# Altium footprint library Connectors.PcbLib: 36 footprints (part 1 of 3)
Each footprint in its own frame and in the unit in brackets; x right, y up, seen from the top. Pads: shape width x height; smd on the part's side, far side on the other; paste and mask are expansions set on the pad; w line width, h text height; cw(c..) or ccw(c..) is an arc to the next point about the centre after c.
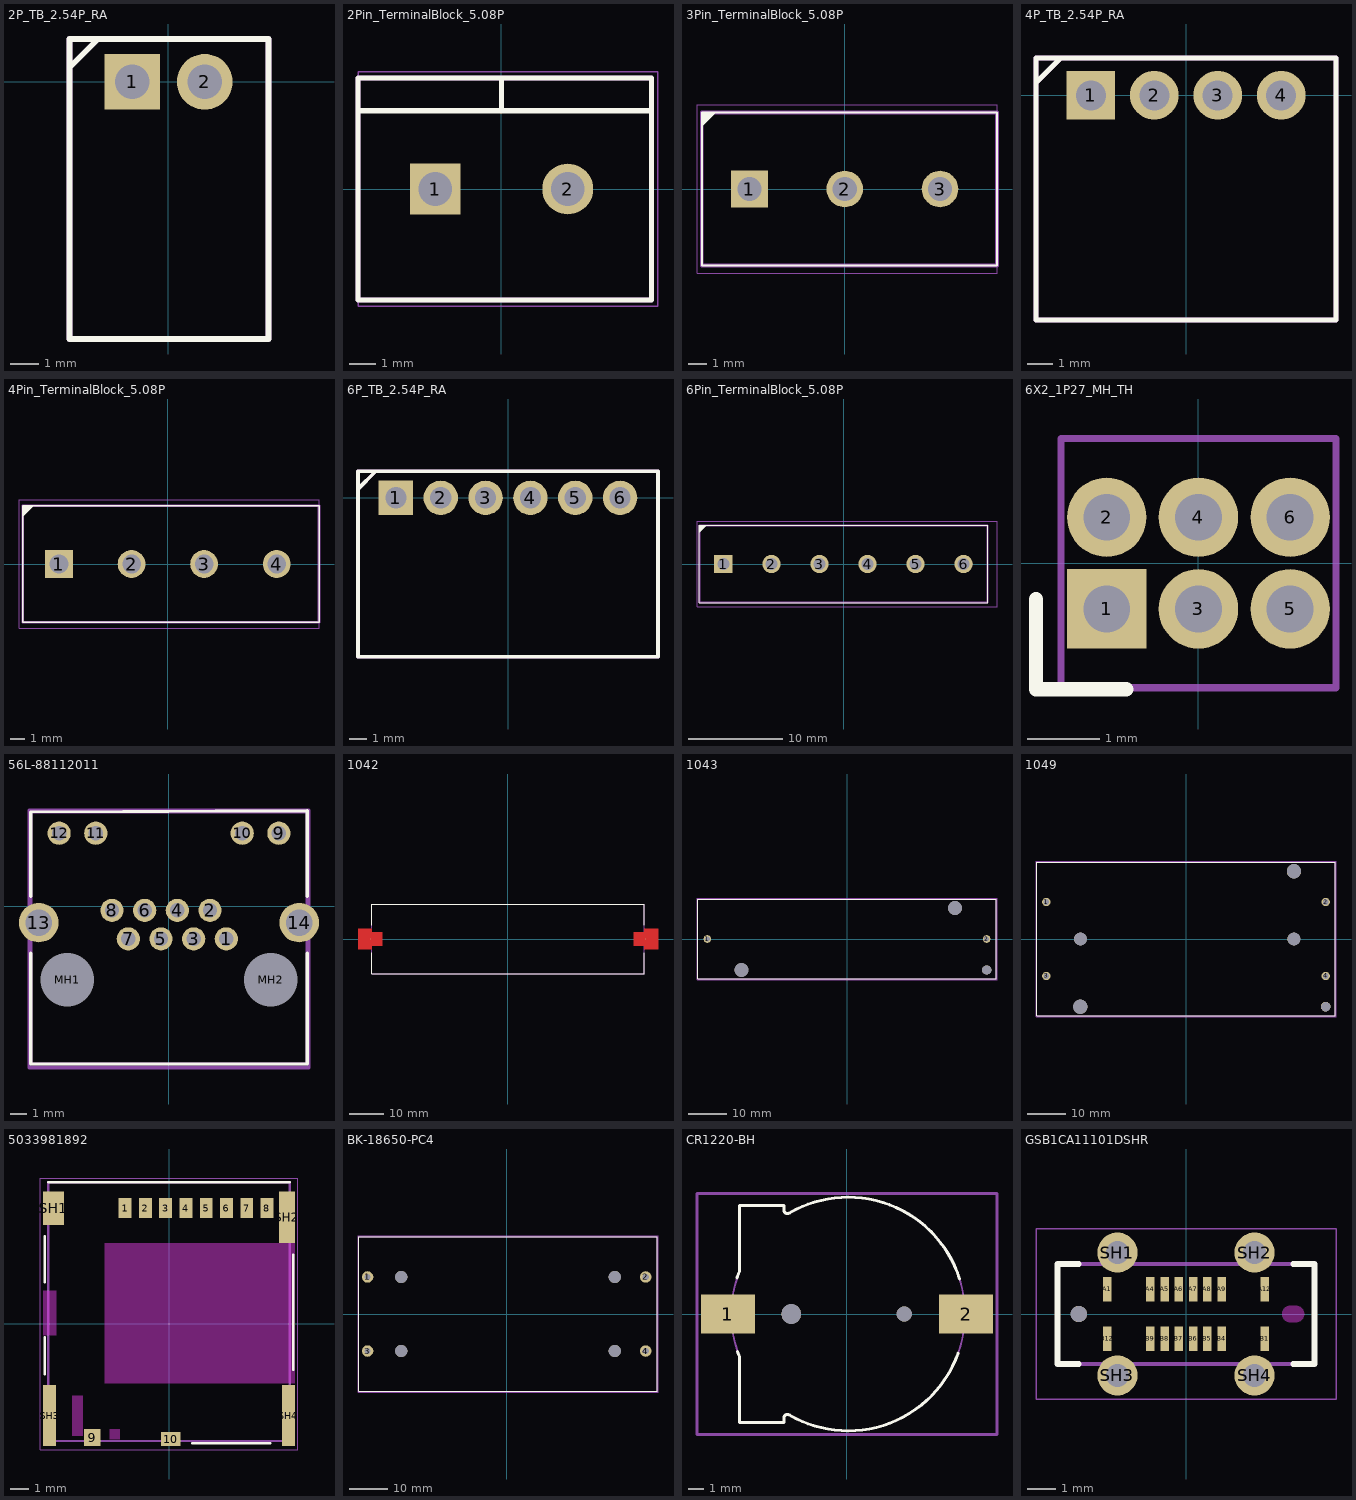
[diagram p0: the footprints below, top view; thin cyan lines are the x and y axes]

## 2P_TB_2.54P_RA [mm]
pads (2):
  rect 1.95x1.95 hole 1.2: 1(-1.27,0)
  round 1.95 hole 1.2: 2(1.27,0)
Top Overlay:
  lines w0.2: -3.46,0.5 -2.46,1.5 ; -3.46,-9 -3.46,1.5 3.5,1.5 3.5,-9 -3.46,-9
Mechanical 13:
  lines w0.2: -3.46,0.5 -2.46,1.5 ; -3.46,-9 -3.46,1.5 3.5,1.5 3.5,-9 -3.46,-9
Mechanical 15:
  lines w0.2: -3.46,-9 3.5,-9 3.5,1.5 -3.46,1.5 -3.46,-9
3D body "c-2842530-2-1-3d.stp": height 8.17, standoff -3.73, extent -3.418,-8.914 3.482,1.186

## 2Pin_TerminalBlock_5.08P [mm]
pads (2):
  rect 1.95x1.95 hole 1.3: 1(-2.54,0)
  round 1.95 hole 1.3: 2(2.54,0)
Top Overlay:
  lines w0.2: -5.5,3 5.75,3 ; 0,3 0,4.25 ; -5.5,-4.25 5.75,-4.25 5.75,4.25 -5.5,4.25 -5.5,-4.25
Mechanical 13:
  lines w0.2: -5.5,-4.25 5.75,-4.25 5.75,4.25 -5.5,4.25 -5.5,-4.25
Mechanical 15:
  lines w0.05: -5.5,-4.5 6,-4.5 6,4.5 -5.5,4.5 -5.5,-4.5
3D body "282837-2.STEP": height 10, standoff -3.5, extent -5.08,-4.1 5.68,4.1

## 3Pin_TerminalBlock_5.08P [mm]
pads (3):
  rect 1.95x1.95 hole 1.3: 1(-5.08,0)
  round 1.95 hole 1.3: 2(0,0) 3(5.08,0)
Top Overlay:
  lines w0.1: -7.621,3.377 -6.934,4.064 -7.214,4.064 -7.62,3.658 -7.62,3.505 ; -7.587,3.953 -7.595,3.945 ; -7.094,3.937 -7.094,4.048 -7.122,4.021 -7.122,3.965 -7.571,3.516 -7.571,3.583 -7.161,3.993 -7.368,3.993 -7.603,3.758 -7.603,3.834 -7.404,4.033 -7.507,4.033 -7.595,3.945 ; -7.595,3.945 -7.595,3.945 ; -7.62,-4.075 8.12,-4.075 8.12,4.075 -7.62,4.075 -7.62,-4.075
Mechanical 13:
  lines w0.2: -7.62,-4.075 8.12,-4.075 8.12,4.075 -7.62,4.075 -7.62,-4.075
Mechanical 15:
  lines w0.05: -7.88,-4.5 -7.88,4.5 8.12,4.5 8.12,-4.5 -7.88,-4.5
3D body "3er Terminal Block.step": height 14.5, standoff -3.75, extent -7.62,-5 8.02,5

## 4P_TB_2.54P_RA [mm]
pads (4):
  rect 1.95x1.95 hole 1.2: 1(-3.81,0)
  round 1.95 hole 1.2: 2(-1.27,0) 3(1.27,0) 4(3.81,0)
Top Overlay:
  lines w0.2: -6,0.5 -5,1.5 ; -6,-9 -6,1.5 6,1.5 6,-9 -6,-9
Mechanical 13:
  lines w0.2: -6,0.5 -5,1.5 ; -6,-9 -6,1.5 6,1.5 6,-9 -6,-9
Mechanical 15:
  lines w0.2: -6,-9 6,-9 6,1.5 -6,1.5 -6,-9
3D body "c-2842530-4-1-3d.stp": height 8.17, standoff -3.73, extent -5.918,-8.914 5.982,1.186

## 4Pin_TerminalBlock_5.08P [mm]
pads (4):
  rect 1.95x1.95 hole 1.3: 1(-7.62,0)
  round 1.95 hole 1.3: 2(-2.54,0) 3(2.54,0) 4(7.62,0)
Top Overlay:
  lines w0.1: -10.161,3.377 -9.474,4.064 -9.754,4.064 -10.16,3.658 -10.16,3.505 ; -10.127,3.953 -10.135,3.945 ; -9.634,3.937 -9.634,4.048 -9.662,4.021 -9.662,3.965 -10.111,3.516 -10.111,3.583 -9.701,3.993 -9.908,3.993 -10.143,3.758 -10.143,3.834 -9.944,4.033 -10.047,4.033 -10.135,3.945 ; -10.135,3.945 -10.135,3.945 ; -10.16,-4.075 10.58,-4.075 10.58,4.075 -10.16,4.075 -10.16,-4.075
Mechanical 13:
  lines w0.2: -10.16,-4.075 10.58,-4.075 10.58,4.075 -10.16,4.075 -10.16,-4.075
Mechanical 15:
  lines w0.05: -10.42,-4.5 -10.42,4.5 10.58,4.5 10.58,-4.5 -10.42,-4.5
3D body "4er Terminal Block.step": height 14.5, standoff -3.75, extent -10.16,-5 10.56,5

## 6P_TB_2.54P_RA [mm]
pads (6):
  rect 1.95x1.95 hole 1.2: 1(-6.35,0)
  round 1.95 hole 1.2: 2(-3.81,0) 3(-1.27,0) 4(1.27,0) 5(3.81,0) 6(6.35,0)
Top Overlay:
  lines w0.2: -8.5,0.5 -7.5,1.5 ; -8.5,-9 -8.5,1.5 8.5,1.5 8.5,-9 -8.5,-9
Mechanical 13:
  lines w0.2: -8.5,0.5 -7.5,1.5 ; -8.5,-9 -8.5,1.5 8.5,1.5 8.5,-9 -8.5,-9
Mechanical 15:
  lines w0.2: -8.5,-9 8.5,-9 8.5,1.5 -8.5,1.5 -8.5,-9
3D body "c-2842530-6-1-3d.stp": height 8.17, standoff -3.73, extent -8.418,-8.914 8.482,1.186

## 6Pin_TerminalBlock_5.08P [mm]
pads (6):
  rect 1.95x1.95 hole 1.3: 1(-12.7,0)
  round 1.95 hole 1.3: 2(-7.62,0) 3(-2.54,0) 4(2.54,0) 5(7.62,0) 6(12.7,0)
Top Overlay:
  lines w0.1: -15.241,3.377 -14.554,4.064 -14.834,4.064 -15.24,3.658 -15.24,3.505 ; -15.207,3.953 -15.215,3.945 ; -14.714,3.937 -14.714,4.048 -14.742,4.021 -14.742,3.965 -15.191,3.516 -15.191,3.583 -14.781,3.993 -14.988,3.993 -15.223,3.758 -15.223,3.834 -15.024,4.033 -15.127,4.033 -15.215,3.945 ; -15.215,3.945 -15.215,3.945 ; -15.24,-4.075 15.24,-4.075 15.24,4.075 -15.24,4.075 -15.24,-4.075
Mechanical 13:
  lines w0.2: -15.24,-4.075 15.24,-4.075 15.24,4.075 -15.24,4.075 -15.24,-4.075
Mechanical 15:
  lines w0.05: -15.5,-4.5 -15.5,4.5 16.24,4.5 16.24,-4.5 -15.5,-4.5
3D body "1729160.stp": height 10, standoff -3.5, extent -15.14,-4.047 15.91,4.053

## 6X2_1P27_MH_TH [mm]
pads (6):
  rect 1.1x1.1 hole 0.65: 1(-1.27,-0.635)
  round 1.1 hole 0.65: 2(-1.27,0.635) 3(0,-0.635) 4(0,0.635) 5(1.27,-0.635) 6(1.27,0.635)
Top Overlay:
  lines w0.2: -2.25,-0.5 -2.25,-1.75 -1.25,-1.75 -1,-1.75
Mechanical 13:
  lines w0.1: -1.905,-1.725 -1.905,1.725 1.905,1.725 1.905,-1.725 -1.905,-1.725
3D body "HPH2-A-06-UA.STEP": height 3.5, standoff -2.8, extent -1.905,-1.7 1.905,1.75

## 56L-88112011 [mm] "EVERCOM RJ45 JACK WITH SHIELDING AND LED Y/G RIGHT ANGLE"
pads (16):
  round 1.448 hole 0.9: 1(3.58,-2.03) 2(2.56,-0.25) 3(1.54,-2.03) 4(0.52,-0.25) 5(-0.5,-2.03) 6(-1.52,-0.25) 7(-2.54,-2.03) 8(-3.56,-0.25) 9(6.86,4.57) 10(4.57,4.57) 11(-4.57,4.57) 12(-6.86,4.57)
  round 2.475 hole 1.65: 13(-8.13,-1.01) 14(8.13,-1.01)
  round 1.665 hole 3.33 unplated: MH1(-6.35,-4.57) MH2(6.35,-4.57)
Top Overlay:
  lines w0.2: -8.635,-2.92 -8.635,-9.85 8.635,-9.85 8.635,-2.92 ; -8.635,0.64 -8.635,5.9 8.635,5.98 8.635,0.64
Mechanical 13:
  lines w0.2: -8.635,-9.85 8.635,-9.85 8.635,5.9 -8.635,5.9 -8.635,-9.85
Mechanical 15:
  lines w0.2: -8.75,-10.07 8.75,-10.07 8.75,6 -8.75,6 -8.75,-10.07
3D body "6116075-4.stp": height 13.25, standoff -4.28, extent -8.314,-10.726 8.323,5.987

## 1042 [mil] "BATTERY HOLDER 18650 SMD"
pads (2):
  round 1 smd: 1(-1555.12,0) 2(1555.12,0)
Top Layer:
  region: -1692.91,-118.11 -1692.91,118.11 -1535.43,118.11 -1535.43,78.74 -1417.32,78.74 -1417.32,-78.74 -1535.43,-78.74 -1535.43,-118.11
  region: 1692.91,118.11 1692.91,-118.11 1535.43,-118.11 1535.43,-78.74 1417.32,-78.74 1417.32,78.74 1535.43,78.74 1535.43,118.11
Top Overlay:
  lines w9.84: -1535.43,-157.48 -1535.43,-393.7 1535.43,-393.7 1535.43,-157.48 ; -1535.43,157.48 -1535.43,393.7 1535.43,393.7 1535.43,157.48
Mechanical 13:
  lines w7.87: -1535.43,-393.7 -1535.43,393.7 1535.43,393.7 1535.43,-393.7 -1535.43,-393.7
3D body "keystone-PN1042.STEP": height 604.68, standoff -115.32, extent -1693,-406.5 1693,406.5

## 1043 [mm] "BATTERY HOLDER 18650 PC PIN"
pads (5):
  round 1.98 hole 1.32: 1(-36.11,0) 2(36.11,0)
  round 3.55 hole 3.55 unplated: ""(-27.29,-8) ""(27.91,8)
  round 2.39 hole 2.39 unplated: ""(36.11,-8)
Top Overlay:
  lines w0.127: -38.525,-10.325 -38.525,10.325 38.525,10.325 38.525,-10.325 -38.525,-10.325
Mechanical 13:
  lines w0.127: -38.525,-10.325 38.525,-10.325 38.525,10.325 -38.525,10.325 -38.525,-10.325
Mechanical 15:
  lines w0.05: -38.775,-10.575 38.775,-10.575 38.775,10.575 -38.775,10.575 -38.775,-10.575
3D body "1043P.step": height 14.91, standoff -3.55, extent -38.243,-10.414 38.811,10.236

## 1049 [mm] "BATT HOLDER 18650 2 CELL PC PIN"
pads (9):
  round 2.175 hole 1.45: 1(-36.11,9.565) 2(36.11,9.565) 3(-36.11,-9.565) 4(36.11,-9.565)
  round 3.68 hole 3.68 unplated: ""(-27.31,-17.5) ""(27.89,17.5)
  round 3.31 hole 3.31 unplated: ""(-27.31,0.015) ""(27.89,0.015)
  round 2.51 hole 2.51 unplated: ""(36.11,-17.5)
Top Overlay:
  lines w0.127: -38.53,-19.89 38.53,-19.89 38.53,19.89 -38.53,19.89 -38.53,-19.89
Mechanical 13:
  lines w0.127: -38.53,-19.89 38.53,-19.89 38.53,19.89 -38.53,19.89 -38.53,-19.89
Mechanical 15:
  lines w0.05: -38.78,-20.14 38.78,-20.14 38.78,20.14 -38.78,20.14 -38.78,-20.14
3D body "1049.step": height 14.91, standoff -3.55, extent -38.298,-19.883 38.758,19.893

## 5033981892 [mm] "9 (8 + 1) Position Card Connector Secure Digital - microSD™ Surface Mount, Right Angle Gold"
pads (14):
  rect 0.7x1.1 smd: 1(-2.38,6.27) 2(-1.28,6.27) 3(-0.18,6.27) 4(0.92,6.27) 5(2.02,6.27) 6(3.12,6.27) 7(4.22,6.27)
  rect 0.7x1.1 smd mask+0.05: 8(5.32,6.27)
  rect 0.9x0.93 smd: 9(-4.17,-6.195)
  rect 1.05x0.78 smd: 10(0.095,-6.27)
  rect 1.14x1.83 smd: SH1(-6.26,6.255)
  rect 0.86x2.8 smd mask+0.05: SH2(6.4,5.77)
  rect 0.7x3.33 smd: SH3(-6.48,-4.995) SH4(6.48,-4.995)
Top Layer keep-out:
  region: -2.67,-6.285 -3.223,-6.285 -3.223,-5.73 -2.67,-5.73
  region: -4.685,-6.093 -5.245,-6.093 -5.245,-3.93 -4.685,-3.93
  region: -6.13,-0.631 -6.836,-0.631 -6.836,1.77 -6.13,1.77
  region: 6.83,-3.25 -3.5,-3.25 -3.5,4.37 6.83,4.37
Top Overlay:
  lines w0.127: -6.75,-2.75 -6.75,-0.75 ; -6.75,2.25 -6.75,4.75 ; -6.55,7.67 6.55,7.67 ; 1.25,-6.5 5.5,-6.5 ; 6.75,-2.5 6.75,3.75
Mechanical 13:
  circle w0.2: c-2.38,6.42 r0.1
  lines w0.127: -6.55,-6.38 6.55,-6.38 6.55,7.67 -6.55,7.67 -6.55,-6.38
Mechanical 15:
  lines w0.05: -7,-6.855 7,-6.855 7,7.895 -7,7.895 -7,-6.855
3D body "step_temp.STEP": height 1.4, standoff 0, extent -6.55,-6.38 6.55,7.69

## BK-18650-PC4 [mm] "2X 18650 Through Hole Battery Holder"
pads (8):
  round 3 hole 1.6: 1(-36.25,9.65) 2(36.25,9.65) 3(-36.25,-9.65) 4(36.25,-9.65)
  round 3.2 hole 3.2 unplated: ""(-27.46,-9.65) ""(-27.46,9.65) ""(28.16,-9.65) ""(28.16,9.65)
Top Overlay:
  lines w0.2: -38.5,-20.105 -38.5,20.105 39.2,20.105 39.2,-20.105 -38.5,-20.105
Mechanical 13:
  lines w0.127: -38.5,-20.105 -38.5,20.105 39.2,20.105 39.2,-20.105 -38.5,-20.105
Mechanical 15:
  lines w0.05: -38.75,-20.355 -38.75,20.355 39.45,20.355 39.45,-20.355 -38.75,-20.355
3D body "BK-18650-PC4.step": height 21.74, standoff -3, extent -38.35,-20.105 39.35,20.105

## CR1220-BH [mm] "BATTERY HOLDER COIN 12.5MM SMD"
pads (4):
  rect 3.6x2.6 smd: 1(-7.895,0) 2(7.895,0)
  round 1.3 hole 1.3 unplated: ""(-3.695,0)
  round 1 hole 1 unplated: ""(3.795,0)
Top Overlay:
  lines w0.2: -7.289,2.397 cw(c-0.199,0.082) -7.115,2.876 ; -7.26,-2.486 ccw(c-0.199,-0.082) -7.115,-2.876 ; -7.125,-2.85 -7.125,-7.2 -4.175,-7.2 -4.175,-6.88 ; -7.125,2.85 -7.125,7.2 -4.175,7.2 -4.175,6.88 ; -4.175,-6.881 cw(c-3.97,-6.87) -3.981,-6.665 ; -4.175,6.881 ccw(c-3.97,6.87) -3.981,6.665 ; -3.981,-6.665 cw(c-3.963,-7.014) -3.799,-6.705 ; -3.981,6.665 ccw(c-3.963,7.014) -3.799,6.705 ; -3.793,-6.709 ccw(c0.073,-0.013) 0.073,-7.745 ; -3.793,6.709 cw(c0.073,0.013) 0.073,7.745 ; 0.075,-7.745 ccw(c0.075,0) 7.374,-2.591 ; 0.075,7.745 cw(c0.075,0) 7.464,2.32
Mechanical 13:
  lines w0.127: -7.125,-2.85 -7.125,-7.2 -4.175,-7.2 -4.175,-6.88 ; -7.125,2.85 -7.125,7.2 -4.175,7.2 -4.175,6.88 ; -7.108,-2.893 cw(c0.054,0) -7.108,2.893 ; -4.175,-6.881 cw(c-3.97,-6.87) -3.981,-6.665 ; -4.175,6.881 ccw(c-3.97,6.87) -3.981,6.665 ; -3.981,-6.665 cw(c-3.963,-7.014) -3.799,-6.705 ; -3.981,6.665 ccw(c-3.963,7.014) -3.799,6.705 ; -3.793,-6.709 ccw(c0.073,-0.013) 0.073,-7.745 ; -3.793,6.709 cw(c0.073,0.013) 0.073,7.745 ; 0.075,-7.745 ccw(c0.075,0) 0.075,7.745
Mechanical 15:
  lines w0.2: -9.945,-8 -9.945,8 9.945,8 9.945,-8 -9.945,-8
3D body "1056.step": height 4.23, standoff -0.93, extent -9.227,-7.595 9.573,7.538

## GSB1CA11101DSHR [mm] "USB-C (USB TYPE-C) USB 2.0 Receptacle Connector 24 (16+8 Dummy) Position Surface Mount, Through Hole"
pads (21):
  rect 0.3x0.87 smd mask+0.01: A1(-2.75,0.865) A4(-1.25,0.865) A5(-0.75,0.865) A6(-0.25,0.865) A7(0.25,0.865) A8(0.75,0.865) A9(1.25,0.865) A12(2.75,0.865) B1(2.75,-0.865) B4(1.25,-0.865) B5(0.75,-0.865) B6(0.25,-0.865) B7(-0.25,-0.865) B8(-0.75,-0.865) B9(-1.25,-0.865) B12(-2.75,-0.865)
  round 1.4 hole 0.8 mask+0.025: SH1(-2.4,2.15) SH2(2.4,2.15) SH3(-2.4,-2.15) SH4(2.4,-2.15)
  round 0.57 hole 0.57 unplated: ""(-3.75,0)
Top Overlay:
  lines w0.2: -3.75,-1.75 -4.5,-1.75 -4.5,1.5 -4.5,1.75 -3.75,1.75 ; 3.75,-1.75 4.5,-1.75 4.5,1.75 3.75,1.75
Top Solder:
  region: 3.87,0.384 3.89,0.383 3.91,0.38 3.93,0.377 3.95,0.372 3.969,0.366 3.988,0.359 4.007,0.352 4.025,0.343 4.043,0.333 4.06,0.323 4.076,0.311 4.092,0.299 4.108,0.286 4.122,0.272 4.136,0.258 4.149,0.242 4.161,0.226 4.173,0.21 4.183,0.192 4.193,0.175 4.202,0.157 4.209,0.138 4.216,0.119 4.222,0.1 4.227,0.08 4.23,0.06 4.233,0.04 4.234,0.02 4.235,0 4.234,-0.02 4.233,-0.04 4.23,-0.06 4.227,-0.08 4.222,-0.1 4.216,-0.119 4.209,-0.138 4.202,-0.157 4.193,-0.175 4.183,-0.192 4.173,-0.21 4.161,-0.226 4.149,-0.242 4.136,-0.258 4.122,-0.272 4.108,-0.286 4.092,-0.299 4.076,-0.311 4.06,-0.323 4.043,-0.333 4.025,-0.343 4.007,-0.352 3.988,-0.359 3.969,-0.366 3.95,-0.372 3.93,-0.377 3.91,-0.38 3.89,-0.383 3.87,-0.384 3.85,-0.385 3.65,-0.385 3.63,-0.384 3.61,-0.383 3.59,-0.38 3.57,-0.377 3.55,-0.372 3.531,-0.366 3.512,-0.359 3.493,-0.352 3.475,-0.343 3.457,-0.333 3.44,-0.323 3.424,-0.311 3.408,-0.299 3.392,-0.286 3.378,-0.272 3.364,-0.258 3.351,-0.242 3.339,-0.226 3.327,-0.21 3.317,-0.193 3.307,-0.175 3.298,-0.157 3.291,-0.138 3.284,-0.119 3.278,-0.1 3.273,-0.08 3.27,-0.06 3.267,-0.04 3.266,-0.02 3.265,0 3.266,0.02 3.267,0.04 3.27,0.06 3.273,0.08 3.278,0.1 3.284,0.119 3.291,0.138 3.298,0.157 3.307,0.175 3.317,0.192 3.327,0.21 3.339,0.226 3.351,0.242 3.364,0.258 3.378,0.272 3.392,0.286 3.408,0.299 3.424,0.311 3.44,0.323 3.458,0.333 3.475,0.343 3.493,0.352 3.512,0.359 3.531,0.366 3.55,0.372 3.57,0.377 3.59,0.38 3.61,0.383 3.63,0.384 3.65,0.385 3.85,0.385
Bottom Solder:
  region: 3.87,0.384 3.89,0.383 3.91,0.38 3.93,0.377 3.95,0.372 3.969,0.366 3.988,0.359 4.007,0.352 4.025,0.343 4.043,0.333 4.06,0.323 4.076,0.311 4.092,0.299 4.108,0.286 4.122,0.272 4.136,0.258 4.149,0.242 4.161,0.226 4.173,0.21 4.183,0.192 4.193,0.175 4.202,0.157 4.209,0.138 4.216,0.119 4.222,0.1 4.227,0.08 4.23,0.06 4.233,0.04 4.234,0.02 4.235,0 4.234,-0.02 4.233,-0.04 4.23,-0.06 4.227,-0.08 4.222,-0.1 4.216,-0.119 4.209,-0.138 4.202,-0.157 4.193,-0.175 4.183,-0.192 4.173,-0.21 4.161,-0.226 4.149,-0.242 4.136,-0.258 4.122,-0.272 4.108,-0.286 4.092,-0.299 4.076,-0.311 4.06,-0.323 4.043,-0.333 4.025,-0.343 4.007,-0.352 3.988,-0.359 3.969,-0.366 3.95,-0.372 3.93,-0.377 3.91,-0.38 3.89,-0.383 3.87,-0.384 3.85,-0.385 3.65,-0.385 3.63,-0.384 3.61,-0.383 3.59,-0.38 3.57,-0.377 3.55,-0.372 3.531,-0.366 3.512,-0.359 3.493,-0.352 3.475,-0.343 3.457,-0.333 3.44,-0.323 3.424,-0.311 3.408,-0.299 3.392,-0.286 3.378,-0.272 3.364,-0.258 3.351,-0.242 3.339,-0.226 3.327,-0.21 3.317,-0.193 3.307,-0.175 3.298,-0.157 3.291,-0.138 3.284,-0.119 3.278,-0.1 3.273,-0.08 3.27,-0.06 3.267,-0.04 3.266,-0.02 3.265,0 3.266,0.02 3.267,0.04 3.27,0.06 3.273,0.08 3.278,0.1 3.284,0.119 3.291,0.138 3.298,0.157 3.307,0.175 3.317,0.192 3.327,0.21 3.339,0.226 3.351,0.242 3.364,0.258 3.378,0.272 3.392,0.286 3.408,0.299 3.424,0.311 3.44,0.323 3.458,0.333 3.475,0.343 3.493,0.352 3.512,0.359 3.531,0.366 3.55,0.372 3.57,0.377 3.59,0.38 3.61,0.383 3.63,0.384 3.65,0.385 3.85,0.385
Keep-Out Layer:
  board cut-out: 3.85,0.285 3.65,0.285 3.635,0.285 3.62,0.283 3.605,0.281 3.591,0.279 3.576,0.275 3.562,0.271 3.548,0.266 3.534,0.26 3.521,0.254 3.508,0.247 3.495,0.239 3.482,0.231 3.471,0.221 3.459,0.212 3.448,0.202 3.438,0.191 3.429,0.179 3.419,0.168 3.411,0.155 3.403,0.143 3.396,0.129 3.39,0.116 3.384,0.102 3.379,0.088 3.375,0.074 3.371,0.059 3.369,0.045 3.367,0.03 3.365,0.015 3.365,0 3.365,-0.015 3.367,-0.03 3.369,-0.045 3.371,-0.059 3.375,-0.074 3.379,-0.088 3.384,-0.102 3.39,-0.116 3.396,-0.129 3.403,-0.143 3.411,-0.155 3.419,-0.168 3.429,-0.179 3.438,-0.191 3.448,-0.202 3.459,-0.212 3.471,-0.221 3.482,-0.231 3.495,-0.239 3.508,-0.247 3.521,-0.254 3.534,-0.26 3.548,-0.266 3.562,-0.271 3.576,-0.275 3.591,-0.279 3.605,-0.281 3.62,-0.283 3.635,-0.285 3.65,-0.285 3.85,-0.285 3.865,-0.285 3.88,-0.283 3.895,-0.281 3.909,-0.279 3.924,-0.275 3.938,-0.271 3.952,-0.266 3.966,-0.26 3.979,-0.254 3.992,-0.247 4.005,-0.239 4.018,-0.231 4.029,-0.221 4.041,-0.212 4.052,-0.202 4.062,-0.191 4.071,-0.179 4.081,-0.168 4.089,-0.155 4.097,-0.143 4.104,-0.129 4.11,-0.116 4.116,-0.102 4.121,-0.088 4.125,-0.074 4.129,-0.059 4.131,-0.045 4.133,-0.03 4.135,-0.015 4.135,0 4.135,0.015 4.133,0.03 4.131,0.045 4.129,0.059 4.125,0.074 4.121,0.088 4.116,0.102 4.11,0.116 4.104,0.129 4.097,0.143 4.089,0.155 4.081,0.168 4.071,0.179 4.062,0.191 4.052,0.202 4.041,0.212 4.029,0.221 4.018,0.231 4.005,0.239 3.992,0.247 3.979,0.254 3.966,0.26 3.952,0.266 3.938,0.271 3.924,0.275 3.909,0.279 3.895,0.281 3.88,0.283 3.865,0.285
Mechanical 13:
  lines w0.127: -4.5,-1.75 4.5,-1.75 4.5,1.75 -4.5,1.75 -4.5,-1.75
Mechanical 15:
  lines w0.05: -5.25,-2.975 5.25,-2.975 5.25,2.975 -5.25,2.975 -5.25,-2.975
3D body "step_temp.STEP": height 7.4, standoff -0.95, extent -5,-2.3 5,2.3